# Altium schematic symbol library HW_ADHERENT_SYSCTRL_R1_L2.SCHLIB: 1987 symbols (part 19 of 38)
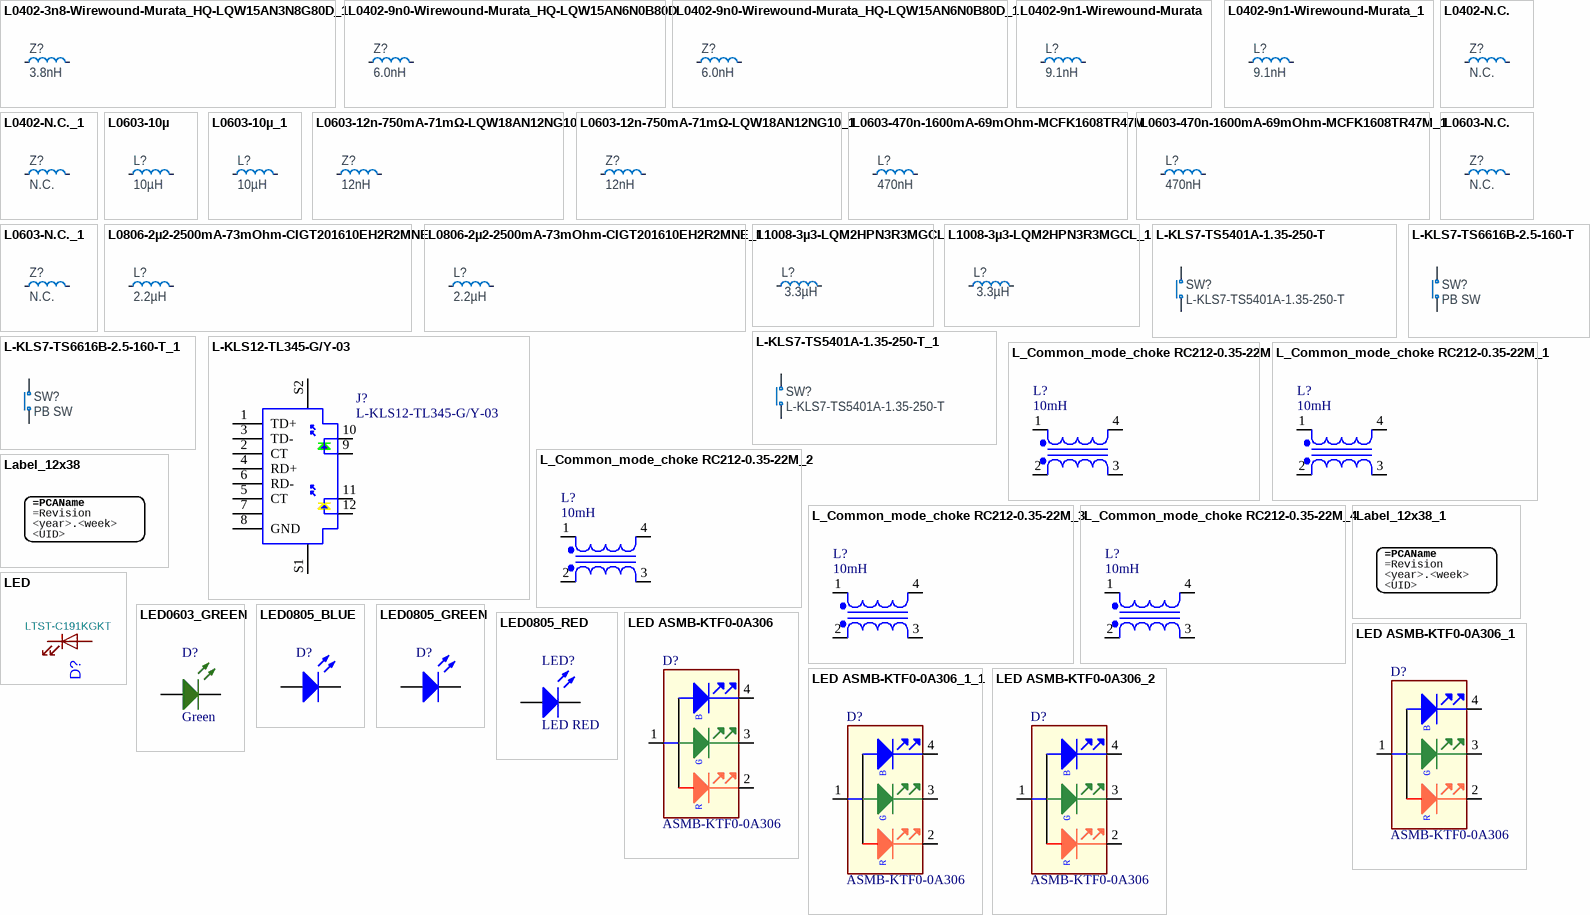
[diagram p80: symbols L0402-3n8-Wirewound-Murata_HQ-LQW15AN3N8G80D_1 to LED ASMB-KTF0-0A306_2]

## L0603-470n-1600mA-69mOhm-MCFK1608TR47M
designator L?, comment 470nH
Inductor, Irms=1.6A, Isat=1.9A, ±20%, DCR=69mΩ; Part Number: L0603-470n-1600mA-69mOhm-MCFK1608TR47M; Manufacturer: Taiyo Yuden; Manufacturer Part Number: MCFK1608TR47M; Part number NEMS: 100300402; Pad Count: 2; Component Status: Active; Note: -40°C ~ 125°C; Artikkelnr Noca: N.A.; Component Class: Inductors; Author: getr; Footprint Doc: 0603; Value: 470nH; PartId: 100300402; ComponentLink1URL: https://ds.yuden.co.jp/TYCOMPAS/ut/detail?pn=MCFK1608TR47M%20&u=M; ComponentLink1Description: Datasheet; ComponentLink2URL: https://www.digikey.com/en/products/detail/taiyo-yuden/MCFK1608TR47M/7100391?s=N4IgTCBcDaILIGEBiBpAjANgAwA4AqASgCwDscIAugL5A; ComponentLink2Description: Supplier link; HelpURL: https://ds.yuden.co.jp/TYCOMPAS/ut/detail?pn=MCFK1608TR47M&u=M; LatestRevisionDate: 2022-09-07; Published: 2021-04-06; Supplier 1: Digi-Key; Supplier Part Number 1: 587-5625-1-ND; Supplier 2: N.A.; Supplier Part Number 2: N.A.; Part number IPS: N.A.; Part number Norautron: N.A.
footprint INDC1608X06L
pins: 1, 2

## L0603-470n-1600mA-69mOhm-MCFK1608TR47M_1
designator L?, comment 470nH
Inductor, Irms=1.6A, Isat=1.9A, ±20%, DCR=69mΩ; Part Number: L0603-470n-1600mA-69mOhm-MCFK1608TR47M; Manufacturer: Taiyo Yuden; Manufacturer Part Number: MCFK1608TR47M; Part number NEMS: 100300402; Pad Count: 2; Component Status: Active; Note: -40°C ~ 125°C; Artikkelnr Noca: N.A.; Component Class: Inductors; Author: getr; Footprint Doc: 0603; Value: 470nH; PartId: 100300402; ComponentLink1URL: https://ds.yuden.co.jp/TYCOMPAS/ut/detail?pn=MCFK1608TR47M%20&u=M; ComponentLink1Description: Datasheet; ComponentLink2URL: https://www.digikey.com/en/products/detail/taiyo-yuden/MCFK1608TR47M/7100391?s=N4IgTCBcDaILIGEBiBpAjANgAwA4AqASgCwDscIAugL5A; ComponentLink2Description: Supplier link; HelpURL: https://ds.yuden.co.jp/TYCOMPAS/ut/detail?pn=MCFK1608TR47M&u=M; LatestRevisionDate: 2022-09-07; Published: 2021-04-06; Supplier 1: Digi-Key; Supplier Part Number 1: 587-5625-1-ND; Supplier 2: N.A.; Supplier Part Number 2: N.A.; Part number IPS: N.A.; Part number Norautron: N.A.
footprint INDC1608X06L
pins: 1, 2

## L0603-N.C.
designator Z?, comment N.C.
Not mounted; Part Number: L0603-N.C.; Manufacturer: N.A.; Part number NEMS: 100300069; Pad Count: 2; Assembly: Not mounted; Component Status: Active; PartId: 100300069; Component Class: Inductors; Author: rsk; Manufacturer Part Number: N.A.; ComponentLink1URL: N.A.; ComponentLink1Description: Datasheet; ComponentLink2URL: N.A.; ComponentLink2Description: Supplier link; HelpURL: N.A.; Footprint Doc: 0603; LatestRevisionDate: 2016-11-24; Published: 2016-11-24; Value: N.C.; Note: N.A.; Supplier 1: N.A.; Supplier Part Number 1: N.A.; Supplier 2: N.A.; Supplier Part Number 2: N.A.; Artikkelnr Noca: N.A.; Part number IPS: N.A.; Part number Norautron: N.A.
footprint INDC1608X06L_NC
footprint C1608X06L-C1005X04M (Chip Capacitor, 2-Leads, Body 1.6x0.8mm, IPC High Density)
pins: 1, 2

## L0603-N.C._1
designator Z?, comment N.C.
Not mounted; Part Number: L0603-N.C.; Manufacturer: N.A.; Part number NEMS: 100300069; Pad Count: 2; Assembly: Not mounted; Component Status: Active; PartId: 100300069; Component Class: Inductors; Author: rsk; Manufacturer Part Number: N.A.; ComponentLink1URL: N.A.; ComponentLink1Description: Datasheet; ComponentLink2URL: N.A.; ComponentLink2Description: Supplier link; HelpURL: N.A.; Footprint Doc: 0603; LatestRevisionDate: 2016-11-24; Published: 2016-11-24; Value: N.C.; Note: N.A.; Supplier 1: N.A.; Supplier Part Number 1: N.A.; Supplier 2: N.A.; Supplier Part Number 2: N.A.; Artikkelnr Noca: N.A.; Part number IPS: N.A.; Part number Norautron: N.A.
footprint INDC1608X06L_NC
footprint C1608X06L-C1005X04M (Chip Capacitor, 2-Leads, Body 1.6x0.8mm, IPC High Density)
pins: 1, 2

## L0806-2µ2-2500mA-73mOhm-CIGT201610EH2R2MNE
designator L?, comment 2.2µH
Inductor, Irms=2.5A, Isat=2.9A, ±20%, DCR=73mΩ; Part Number: L0806-2µ2-2500mA-73mOhm-CIGT201610EH2R2MNE; Manufacturer: Samsung Electro-Mechanics America; Manufacturer Part Number: CIGT201610EH2R2MNE; Part number Norautron: 26521789; Part number NEMS: 100300400; Pad Count: 2; Component Status: Active; Note: Unshielded Thin Film Inductor; Artikkelnr Noca: N.A.; Component Class: Inductors; Author: rsk; Footprint Doc: 0806; Value: 2.2µH; PartId: 100300400; ComponentLink1URL: https://media.digikey.com/pdf/Data%20Sheets/Samsung%20PDFs/CIGT201610EH2R2MNE_Spec.pdf; ComponentLink1Description: Datasheet; ComponentLink2URL: https://www.digikey.com/en/products/detail/samsung-electro-mechanics/CIGT201610EH2R2MNE/7041223?s=N4IgTCBcDaIMIEkDiAVMAGAjANk%2BgogBJgBKYAsgHL4gC6AvkA; ComponentLink2Description: Supplier link; HelpURL: http://product.samsungsem.com/pi/CIGT201610EH2R2MN.do; LatestRevisionDate: 2022-09-07; Published: 2021-02-03; Supplier 1: Digi-Key; Supplier Part Number 1: 1276-6901-1-ND; Supplier 2: Mouser; Supplier Part Number 2: 187-CIGT201610EH2R2M; Part number IPS: N.A.
footprint INDC2016X10N
pins: 1, 2

## L0806-2µ2-2500mA-73mOhm-CIGT201610EH2R2MNE_1
designator L?, comment 2.2µH
Inductor, Irms=2.5A, Isat=2.9A, ±20%, DCR=73mΩ; Part Number: L0806-2µ2-2500mA-73mOhm-CIGT201610EH2R2MNE; Manufacturer: Samsung Electro-Mechanics America; Manufacturer Part Number: CIGT201610EH2R2MNE; Part number Norautron: 26521789; Part number NEMS: 100300400; Pad Count: 2; Component Status: Active; Note: Unshielded Thin Film Inductor; Artikkelnr Noca: N.A.; Component Class: Inductors; Author: rsk; Footprint Doc: 0806; Value: 2.2µH; PartId: 100300400; ComponentLink1URL: https://media.digikey.com/pdf/Data%20Sheets/Samsung%20PDFs/CIGT201610EH2R2MNE_Spec.pdf; ComponentLink1Description: Datasheet; ComponentLink2URL: https://www.digikey.com/en/products/detail/samsung-electro-mechanics/CIGT201610EH2R2MNE/7041223?s=N4IgTCBcDaIMIEkDiAVMAGAjANk%2BgogBJgBKYAsgHL4gC6AvkA; ComponentLink2Description: Supplier link; HelpURL: http://product.samsungsem.com/pi/CIGT201610EH2R2MN.do; LatestRevisionDate: 2022-09-07; Published: 2021-02-03; Supplier 1: Digi-Key; Supplier Part Number 1: 1276-6901-1-ND; Supplier 2: Mouser; Supplier Part Number 2: 187-CIGT201610EH2R2M; Part number IPS: N.A.
footprint INDC2016X10N
pins: 1, 2

## L1008-3µ3-LQM2HPN3R3MGCL
designator L?, comment 3.3µH
Inductor, 1A, ±20%, 200mOhm; Part Number: L1008-3µ3-LQM2HPN3R3MGCL; Manufacturer: Murata; Manufacturer Part Number: LQM2HPN3R3MGCL; Part number NEMS: 100300406; Pad Count: 2; Note: -55°C ~ 125°C; Artikkelnr Noca: N.A.; Component Status: Active; Component Class: Inductors; Author: prbu; ComponentLink1URL: https://www.murata.com/en-sg/products/productdetail?partno=LQM2HPN3R3MGC%23; ComponentLink1Description: Datasheet; ComponentLink2URL: https://www.digikey.com/en/products/detail/murata-electronics/LQM2HPN3R3MGCL/4359129?s=N4IgTCBcDaIDIEUCyYASAFAcgZgEraQHEBhOEAXQF8g; ComponentLink2Description: Supplier link; HelpURL: https://www.murata.com/en-sg/products/productdetail?partno=LQM2HPN3R3MGC%23; Footprint Doc: 1008; LatestRevisionDate: 2022-01-20; Published: 2022-01-20; Value: 3.3µH; Supplier 1: Digi-Key; Supplier Part Number 1: 490-12070-1-ND; Supplier 2: N.A.; Supplier Part Number 2: N.A.; Part number IPS: N.A.; Part number Norautron: N.A.; PartId: 100300406
footprint INDC2520X10N
pins: 1, 2

## L1008-3µ3-LQM2HPN3R3MGCL_1
designator L?, comment 3.3µH
Inductor, 1A, ±20%, 200mOhm; Part Number: L1008-3µ3-LQM2HPN3R3MGCL; Manufacturer: Murata; Manufacturer Part Number: LQM2HPN3R3MGCL; Part number NEMS: 100300406; Pad Count: 2; Note: -55°C ~ 125°C; Artikkelnr Noca: N.A.; Component Status: Active; Component Class: Inductors; Author: prbu; ComponentLink1URL: https://www.murata.com/en-sg/products/productdetail?partno=LQM2HPN3R3MGC%23; ComponentLink1Description: Datasheet; ComponentLink2URL: https://www.digikey.com/en/products/detail/murata-electronics/LQM2HPN3R3MGCL/4359129?s=N4IgTCBcDaIDIEUCyYASAFAcgZgEraQHEBhOEAXQF8g; ComponentLink2Description: Supplier link; HelpURL: https://www.murata.com/en-sg/products/productdetail?partno=LQM2HPN3R3MGC%23; Footprint Doc: 1008; LatestRevisionDate: 2022-01-20; Published: 2022-01-20; Value: 3.3µH; Supplier 1: Digi-Key; Supplier Part Number 1: 490-12070-1-ND; Supplier 2: N.A.; Supplier Part Number 2: N.A.; Part number IPS: N.A.; Part number Norautron: N.A.; PartId: 100300406
footprint INDC2520X10N
pins: 1, 2

## L-KLS7-TS5401A-1.35-250-T
designator SW?
Microminiature SMT Switch, Side Actuated; Manufacturer: Cabcon; Part number NEMS: 101500149; Pad Count: 4; Note: Tactile Switch, SPST, SMD, 220gf; Artikkelnr Noca: N.A.; Component Status: Active; Part Number: L-KLS7-TS5401A-1.35-250-T; Component Class: Switches; Author: getr; Manufacturer Part Number: L-KLS7-TS5401A-1.35-250-T; ComponentLink1URL: N.A.; ComponentLink1Description: Datasheet; ComponentLink2URL: N.A.; ComponentLink2Description: Supplier link; HelpURL: N.A.; Footprint Doc: L-KLS7-TS5401A-1.35-250-T; LatestRevisionDate: 2024-08-08; Published: 2024-08-08; Value: L-KLS7-TS5401A-1.35-250-T; Supplier 1: Cabcon; Supplier Part Number 1: L-KLS7-TS5401A-1.35-250-T; Supplier 2: N.A.; Supplier Part Number 2: N.A.; Part number IPS: N.A.; Part number Norautron: N.A.; PartId: 101500149
footprint L-KLS7-TS5401A-1.35-250-T
pins: 1 N.O, 2 COM

## L-KLS7-TS5401A-1.35-250-T_1
designator SW?, comment L-KLS7-TS5401A-1.35-250-T
Microminiature SMT Switch, Side Actuated; Manufacturer: Cabcon; Part number NEMS: 101500149; Pad Count: 4; Note: Tactile Switch, SPST, SMD, 220gf; Artikkelnr Noca: N.A.; Component Status: Active; Part Number: L-KLS7-TS5401A-1.35-250-T; Component Class: Switches; Author: getr; Manufacturer Part Number: L-KLS7-TS5401A-1.35-250-T; ComponentLink1URL: N.A.; ComponentLink1Description: Datasheet; ComponentLink2URL: N.A.; ComponentLink2Description: Supplier link; HelpURL: N.A.; Footprint Doc: L-KLS7-TS5401A-1.35-250-T; LatestRevisionDate: 2024-08-08; Published: 2024-08-08; Value: L-KLS7-TS5401A-1.35-250-T; Supplier 1: Cabcon; Supplier Part Number 1: L-KLS7-TS5401A-1.35-250-T; Supplier 2: N.A.; Supplier Part Number 2: N.A.; Part number IPS: N.A.; Part number Norautron: N.A.; PartId: 101500149
footprint L-KLS7-TS5401A-1.35-250-T
pins: 1 N.O, 2 COM

## L-KLS7-TS6616B-2.5-160-T
designator SW?, comment PB SW
Tactile Switch, SPNO, SMD, 160gf, 6.2x6.4x2.5mm; Part Number: L-KLS7-TS6616B-2.5-160-T; Manufacturer: KLS; Part number NEMS: 101500133, 101500001; Note: N.A.; Pad Count: 4; Component Status: Active; Manufacturer Part Number: L-KLS7-TS6616B-2.5-160-T; Footprint Doc: L-KLS7-TS6616B-2.5-160-T; LatestRevisionDate: 2021-07-02; Published: 2021-07-02; Value: PB SW; Artikkelnr Noca: N.A.; Part number IPS: N.A.; ComponentLink1URL: N.A.; ComponentLink1Description: Datasheet; ComponentLink2URL: N.A.; ComponentLink2Description: Supplier link; HelpURL: \\hizz\pro\app9717\Datasheet\switches\KLS\L-KLS7-TS6616B-2.5-160-T.pdf; Supplier 1: Cabcon; Supplier Part Number 1: L-KLS7-TS6616B-2.5-160-T; Supplier 2: N.A.; Supplier Part Number 2: N.A.; Author: masi; Component Class: Switches; PartId: 101500133; Part number Norautron: N.A.
footprint L-KLS7-TS6616B-2.5-160-T
pins: 1 N.O, 2 COM

## L-KLS7-TS6616B-2.5-160-T_1
designator SW?, comment PB SW
Tactile Switch, SPNO, SMD, 160gf, 6.2x6.4x2.5mm; Part Number: L-KLS7-TS6616B-2.5-160-T; Manufacturer: KLS; Part number NEMS: 101500133, 101500001; Note: N.A.; Pad Count: 4; Component Status: Active; Manufacturer Part Number: L-KLS7-TS6616B-2.5-160-T; Footprint Doc: L-KLS7-TS6616B-2.5-160-T; LatestRevisionDate: 2021-07-02; Published: 2021-07-02; Value: PB SW; Artikkelnr Noca: N.A.; Part number IPS: N.A.; ComponentLink1URL: N.A.; ComponentLink1Description: Datasheet; ComponentLink2URL: N.A.; ComponentLink2Description: Supplier link; HelpURL: \\hizz\pro\app9717\Datasheet\switches\KLS\L-KLS7-TS6616B-2.5-160-T.pdf; Supplier 1: Cabcon; Supplier Part Number 1: L-KLS7-TS6616B-2.5-160-T; Supplier 2: N.A.; Supplier Part Number 2: N.A.; Author: masi; Component Class: Switches; PartId: 101500133; Part number Norautron: N.A.
footprint L-KLS7-TS6616B-2.5-160-T
pins: 1 N.O, 2 COM

## L-KLS12-TL345-G/Y-03
designator J?
Manufacturer: KLS; Manufacturer Part Number: L-KLS12-TL345-G/Y-03; Supplier 1: OZDISAN
footprint L-KLS12-TL345-G/Y-03 (Connector, 12-Leads, Body 17.27x15.75mm, Pitch 1.016mm)
footprint L-KLS12-TL345-G/Y-03_1 (Connector, 12-Leads, Body 17.27x15.75mm, Pitch 1.016mm)
pins: 1 TD+, 2 CT, 3 TD-, 4 RD+, 5 CT, 6 RD-, 7, 8 GND, 9, 10, 11, 12, S1, S2

## L_Common_mode_choke RC212-0.35-22M
designator L?, comment 10mH
CMC 10MH 2A 2LN TH; Manufacturer: Würth Elektronik; Manufacturer Part Number: 744823210; Value: 10mH; Supplier Part Number: 732-1447-ND
footprint RADIAL, 23X13X28MM (PN: 744823210)
pins: 1, 2, 3, 4

## L_Common_mode_choke RC212-0.35-22M_1
designator L?, comment 10mH
CMC 10MH 2A 2LN TH; Manufacturer: Würth Elektronik; Manufacturer Part Number: 744823210; Value: 10mH; Supplier Part Number: 732-1447-ND
footprint RADIAL, 23X13X28MM (PN: 744823210)
pins: 1, 2, 3, 4

## L_Common_mode_choke RC212-0.35-22M_2
designator L?, comment 10mH
CMC 10MH 2A 2LN TH; Manufacturer: Würth Elektronik; Manufacturer Part Number: 744823210; Value: 10mH; Supplier Part Number: 732-1447-ND
footprint RADIAL, 23X13X28MM (PN: 744823210)
pins: 1, 2, 3, 4

## L_Common_mode_choke RC212-0.35-22M_3
designator L?, comment 10mH
CMC 10MH 2A 2LN TH; Manufacturer: Würth Elektronik; Manufacturer Part Number: 744823210; Value: 10mH; Supplier Part Number: 732-1447-ND
footprint RADIAL, 23X13X28MM (PN: 744823210)
pins: 1, 2, 3, 4

## L_Common_mode_choke RC212-0.35-22M_4
designator L?, comment 10mH
CMC 10MH 2A 2LN TH; Manufacturer: Würth Elektronik; Manufacturer Part Number: 744823210; Value: 10mH; Supplier Part Number: 732-1447-ND
footprint RADIAL, 23X13X28MM (PN: 744823210)
pins: 1, 2, 3, 4

## Label_12x38
designator LABEL?, comment 12x38mm  (value not drawn)
PCA version label, stick-on, 12x38mm; Part Number: Label_12x38; Manufacturer: Ellco Etikett; Manufacturer Part Number: 83019; Part number NEMS: 101200031; Component Status: Active; Pad Count: 0; Note: N.A.; Component Class: Mechanicals; Author: getr; ComponentLink1URL: N.A.; ComponentLink1Description: Datasheet; ComponentLink2URL: N.A.; ComponentLink2Description: Supplier link; HelpURL: N.A.; LatestRevisionDate: 2023-08-02; Published: 2023-08-02; Footprint Doc: Label; Value: 12x38mm; Supplier 1: N.A.; Supplier Part Number 1: N.A.; Supplier 2: N.A.; Supplier Part Number 2: N.A.; Artikkelnr Noca: N.A.; Part number IPS: N.A.; Part number Norautron: N.A.; PartId: 101200031
footprint LabelSilk_12x38
text: <year>.<week>; <UID>

## Label_12x38_1
designator LABEL?, comment 12x38mm  (value not drawn)
PCA version label, stick-on, 12x38mm; Part Number: Label_12x38; Manufacturer: Ellco Etikett; Manufacturer Part Number: 83019; Part number NEMS: 101200031; Component Status: Active; Pad Count: 0; Note: N.A.; Component Class: Mechanicals; Author: getr; ComponentLink1URL: N.A.; ComponentLink1Description: Datasheet; ComponentLink2URL: N.A.; ComponentLink2Description: Supplier link; HelpURL: N.A.; LatestRevisionDate: 2023-08-02; Published: 2023-08-02; Footprint Doc: Label; Value: 12x38mm; Supplier 1: N.A.; Supplier Part Number 1: N.A.; Supplier 2: N.A.; Supplier Part Number 2: N.A.; Artikkelnr Noca: N.A.; Part number IPS: N.A.; Part number Norautron: N.A.; PartId: 101200031
footprint LabelSilk_12x38
text: <year>.<week>; <UID>

## LED
designator D?, comment LTST-C191KGKT
LED, Bright Green, 0603; Manufacturer: Lite-On Inc.; Footprint: LED_SMD:LED_0603_1608Metric; Manufacturer Part Number: LTST-C191KGKT; Supplier Part Number: 160-1446-1-ND; Value: LTST-C191KGKT
footprint LED0603 (Footprint not found)
pins: 1 A, 2 K

## LED0603_GREEN
designator D?, comment Green
LED GREEN CLEAR 0603 SMD; Manufacturer Part Number: 150060GS75000; Order Code: DIGI : 732-4971-1-ND; Value: Green
footprint LED0603
pins: 1 A, 2 K

## LED0805_BLUE
designator D?, comment LED BLUE  (value not drawn)
Blue 470nm LED Indication - Discrete 3V 0805 (2012 Metric); Manufacturer Part Number: IN-S85AT5B; Manufacturer: Inolux; Color: Red; ComponentLink1Description: Manufacturer URL; ComponentLink2Description: Datasheet; ComponentLink1URL: http://www.we-online.com; PackageReference: 0805_A; ComponentLink2URL: http://katalog.we-online.com/led/datasheet/150080RS75000.pdf
footprint LED0805 (Chip LED, 2-Leads, Body 2.0x1.3mm, IPC Medium Density)
pins: 1 K, 2 A

## LED0805_GREEN
designator D?, comment LED GREEN  (value not drawn)
Green 570nm LED Indication - Discrete 2.1V 0805 (2012 Metric); Manufacturer Part Number: QTLP630C4TR; Manufacturer: Everlight Electronics Co Ltd; Color: Red; ComponentLink1Description: Manufacturer URL; ComponentLink2Description: Datasheet; ComponentLink1URL: http://www.we-online.com; PackageReference: 0805_A; ComponentLink2URL: http://katalog.we-online.com/led/datasheet/150080RS75000.pdf
footprint LED0805 (Chip LED, 2-Leads, Body 2.0x1.3mm, IPC Medium Density)
pins: 1 K, 2 A

## LED0805_RED
designator LED?, comment LED RED
SMD mono-color Chip LED, WL-SMCW, Red; Manufacturer Part Number: 150080RS75000; Manufacturer: Wuerth Elektronik; ComponentLink1Description: Manufacturer URL; ComponentLink2Description: Datasheet; Color: Red; ComponentLink1URL: http://www.we-online.com; PackageReference: 0805_A; ComponentLink2URL: http://katalog.we-online.com/led/datasheet/150080RS75000.pdf
footprint LED0805 (Chip LED, 2-Leads, Body 2.0x1.3mm, IPC Medium Density)
pins: 1 K, 2 A

## LED ASMB-KTF0-0A306
designator D?, comment ASMB-KTF0-0A306
LED RGB 4PLCC SMD; Manufacturer: Broadcom Limited; Value: ASMB-KTF0-0A306; Manufacturer Part Number: ASMB-KTF0-0A306; Supplier Part Number: 516-3906-1-ND
footprint SMD 2.2x2.0mm (ASMB-KTF0-0A306)
pins: 1 Anode, 2 CATHODE1, 3 CATHODE2, 4 CATHODE3
text: B; G; R

## LED ASMB-KTF0-0A306_1
designator D?, comment ASMB-KTF0-0A306
LED RGB 4PLCC SMD; Manufacturer: Broadcom Limited; Manufacturer Part Number: ASMB-KTF0-0A306; Supplier Part Number: 516-3906-1-ND; Value: ASMB-KTF0-0A306
footprint SMD 2.2x2.0mm (ASMB-KTF0-0A306)
pins: 1 Anode, 2 CATHODE1, 3 CATHODE2, 4 CATHODE3
text: B; G; R

## LED ASMB-KTF0-0A306_1_1
designator D?, comment ASMB-KTF0-0A306
LED RGB 4PLCC SMD; Manufacturer: Broadcom Limited; Manufacturer Part Number: ASMB-KTF0-0A306; Supplier Part Number: 516-3906-1-ND; Value: ASMB-KTF0-0A306
footprint SMD 2.2x2.0mm (ASMB-KTF0-0A306)
pins: 1 Anode, 2 CATHODE1, 3 CATHODE2, 4 CATHODE3
text: B; G; R

## LED ASMB-KTF0-0A306_2
designator D?, comment ASMB-KTF0-0A306
LED RGB 4PLCC SMD; Manufacturer: Broadcom Limited; Value: ASMB-KTF0-0A306; Manufacturer Part Number: ASMB-KTF0-0A306; Supplier Part Number: 516-3906-1-ND
footprint SMD 2.2x2.0mm (ASMB-KTF0-0A306)
pins: 1 Anode, 2 CATHODE1, 3 CATHODE2, 4 CATHODE3
text: B; G; R

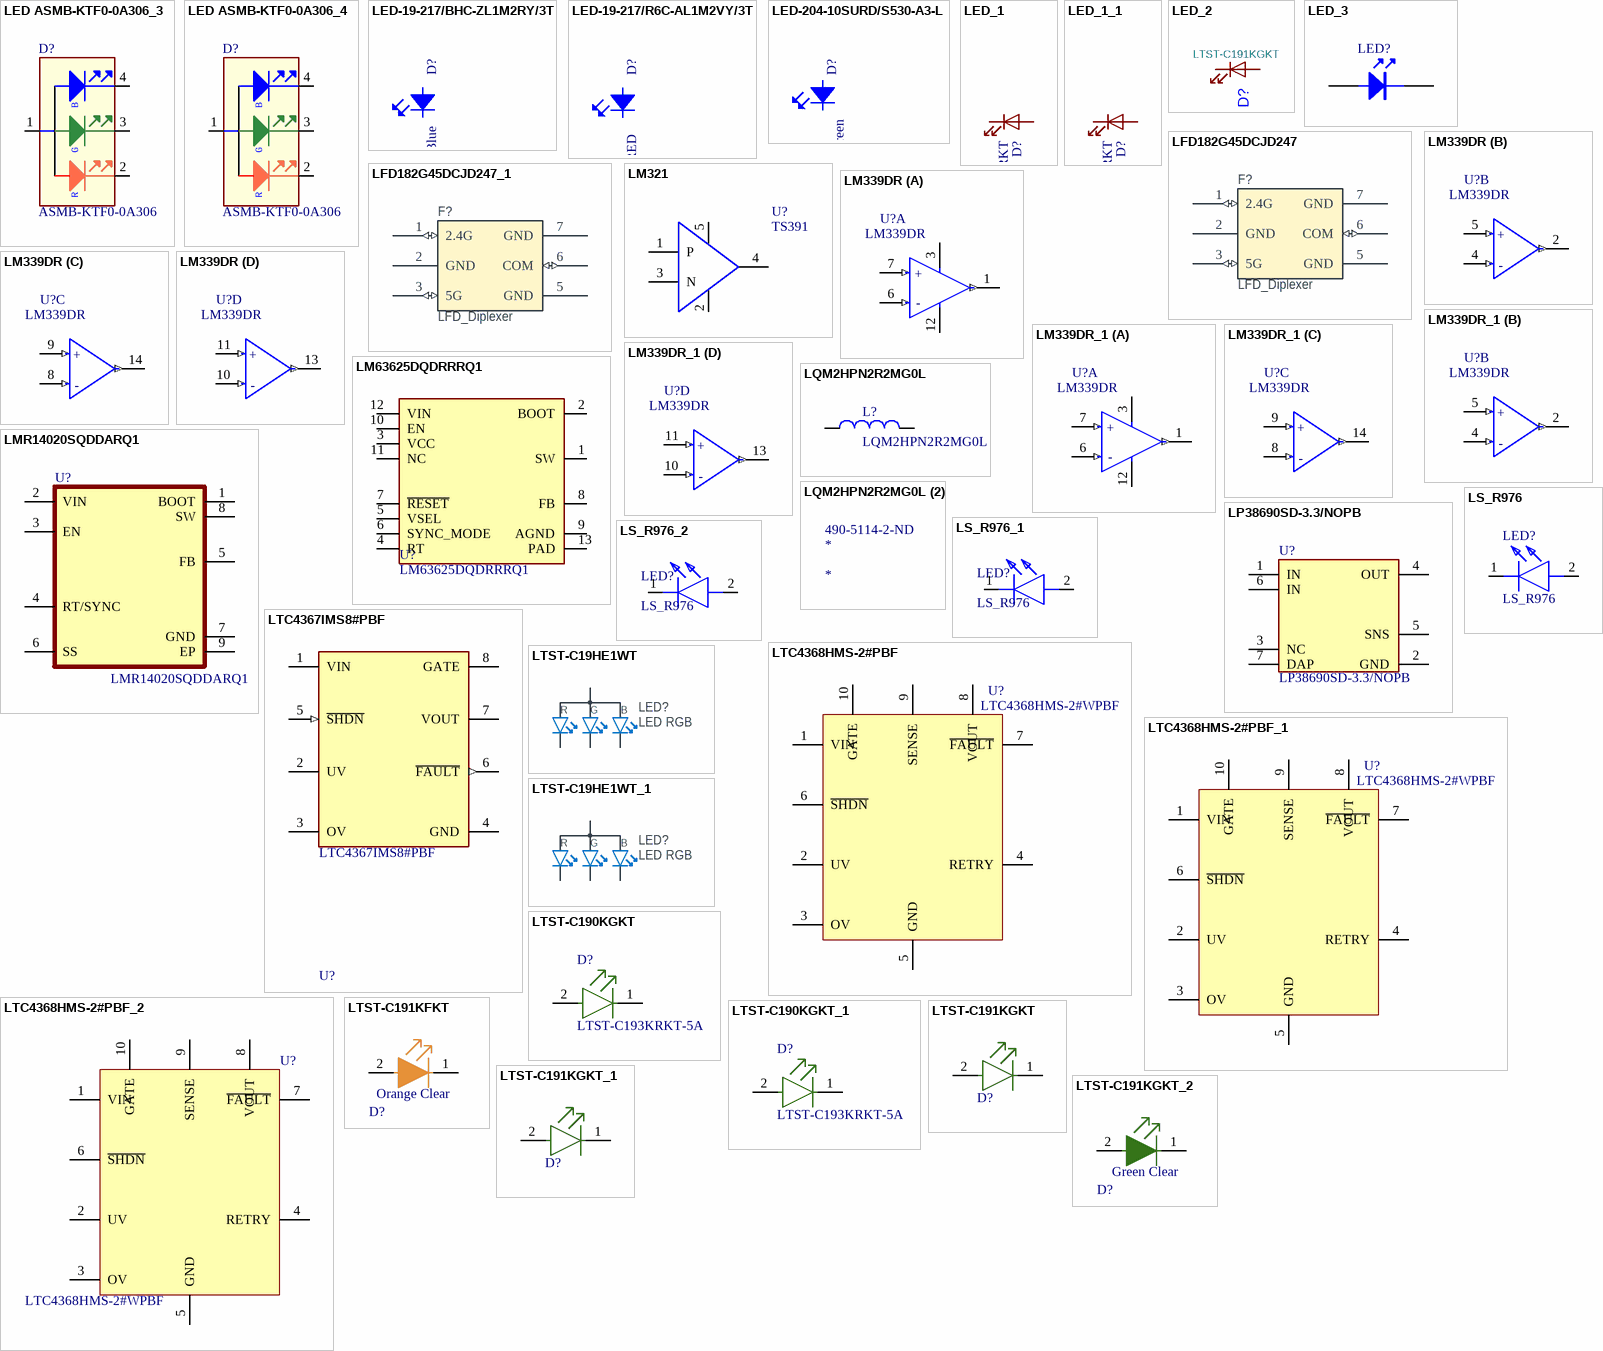
[diagram p33: symbols LED ASMB-KTF0-0A306_3 to LTST-C191KGKT_2]

## LED ASMB-KTF0-0A306_3
designator D?, comment ASMB-KTF0-0A306
LED RGB 4PLCC SMD; Manufacturer: Broadcom Limited; Manufacturer Part Number: ASMB-KTF0-0A306; Supplier Part Number: 516-3906-1-ND; Value: ASMB-KTF0-0A306
footprint SMD 2.2x2.0mm (ASMB-KTF0-0A306)
pins: 1 Anode, 2 CATHODE1, 3 CATHODE2, 4 CATHODE3
text: B; G; R

## LED ASMB-KTF0-0A306_4
designator D?, comment ASMB-KTF0-0A306
LED RGB 4PLCC SMD; Manufacturer: Broadcom Limited; Manufacturer Part Number: ASMB-KTF0-0A306; Supplier Part Number: 516-3906-1-ND; Value: ASMB-KTF0-0A306
footprint SMD 2.2x2.0mm (ASMB-KTF0-0A306)
pins: 1 Anode, 2 CATHODE1, 3 CATHODE2, 4 CATHODE3
text: B; G; R

## LED-19-217/BHC-ZL1M2RY/3T
designator D?, comment Blue
LED,Brilliant Blue,Water Clear,10mA,SMD,0603,Everlight; Manufacturer P/N: 19-217/BHC-ZL1M2RY/3T; PCB Footprint: LED0603; Myir P/N: 20704.00011; Datasheet: 19-217-BHC-ZL1M2RY-3T.pdf; Reserve Value: Blue; Manufacturer: Everlight; Part Type: LED
footprint LED0603
pins: 1 A, 2 K

## LED-19-217/R6C-AL1M2VY/3T
designator D?, comment RED
LED,Brilliant Red,Water Clear,25mA,SMD,0603,Everlight; Manufacturer P/N: 19-217/R6C-AL1M2VY/3T; PCB Footprint: LED0603; Myir P/N: 20704.00010; Datasheet: 19-217-R6C-AL1M2VY-3T.pdf; Reserve Value: Red; Manufacturer: Everlight; Part Type: LED
footprint LED0603
pins: 1 A, 2 K

## LED-204-10SURD/S530-A3-L
designator D?, comment Green
LED,Brilliant Green,Water Clear,25mA,SMD,0603,Everlight,Everlight; Manufacturer P/N: 19-217/G7C-AN1P2-3T; PCB Footprint: LED0603; Myir P/N: 20704.80031; Part Type: LED; Manufacturer: Everlight; Reserve Value: Green; Datasheet: 19-217-G7C-AN1P2-3T.pdf
footprint LED0603
pins: 1 A, 2 K

## LED_1
designator D?, comment LTST-C191KRKT
LED RED CLEAR SMD; Manufacturer: Lite-On Inc.; Value: LTST-C191KRKT; Footprint: LED_SMD:LED_0603_1608Metric; Manufacturer Part Number: LTST-C191KRKT; Supplier Part Number: 160-1447-1-ND
footprint LED0603 (Footprint not found)
pins: 1 A, 2 K

## LED_1_1
designator D?, comment LTST-C191KRKT
LED RED CLEAR SMD; Manufacturer: Lite-On Inc.; Value: LTST-C191KRKT; Footprint: LED_SMD:LED_0603_1608Metric; Manufacturer Part Number: LTST-C191KRKT; Supplier Part Number: 160-1447-1-ND
footprint LED0603 (Footprint not found)
pins: 1 A, 2 K

## LED_2
designator D?, comment LTST-C191KGKT
LED, Bright Green, 0603; Manufacturer: Lite-On Inc.; Footprint: LED_SMD:LED_0603_1608Metric; Manufacturer Part Number: LTST-C191KGKT; Supplier Part Number: 160-1446-1-ND; Value: LTST-C191KGKT
footprint LED0603 (Footprint not found)
pins: 1 A, 2 K

## LED_3
designator LED?
footprint LUMEXLED
pins: A 1, K 2

## LFD182G45DCJD247
designator F?, comment LFD_Diplexer
Signal Conditioning 2.4GHz and 5GHz Diplexer; Part Number: LFD182G45DCJD247; Manufacturer: Murata; Part number NEMS: 100800026; Pad Count: 6; Value: LFD182G45DCJD247; Note: N.A.; Component Status: Active; Component Class: Filters; Author: hany; Manufacturer Part Number: LFD182G45DCJD247; ComponentLink1URL: https://no.mouser.com/datasheet/2/281/1/LFD182G45DCJD247-2399435.pdf; ComponentLink1Description: Datasheet; ComponentLink2URL: N.A.; ComponentLink2Description: Supplier link; HelpURL: N.A.; Footprint Doc: CAF; LatestRevisionDate: 2021-10-06; Published: 2021-10-06; Supplier 1: Mouser; Supplier Part Number 1: 81-LFD182G45DCJD247; Supplier 2: N.A.; Supplier Part Number 2: N.A.; Artikkelnr Noca: N.A.; Part number IPS: N.A.; Part number Norautron: N.A.; PartId: 100800026
footprint CAF-50P160X80-6N
pins: 1 2.4G (io), 2 GND (power), 3 5G (io), 5 GND (power), 6 COM (io), 7 GND (power)

## LFD182G45DCJD247_1
designator F?, comment LFD_Diplexer
Signal Conditioning 2.4GHz and 5GHz Diplexer; Part Number: LFD182G45DCJD247; Manufacturer: Murata; Part number NEMS: 100800026; Pad Count: 6; Value: LFD182G45DCJD247; Note: N.A.; Component Status: Active; Component Class: Filters; Author: hany; Manufacturer Part Number: LFD182G45DCJD247; ComponentLink1URL: https://no.mouser.com/datasheet/2/281/1/LFD182G45DCJD247-2399435.pdf; ComponentLink1Description: Datasheet; ComponentLink2URL: N.A.; ComponentLink2Description: Supplier link; HelpURL: N.A.; Footprint Doc: CAF; LatestRevisionDate: 2021-10-06; Published: 2021-10-06; Supplier 1: Mouser; Supplier Part Number 1: 81-LFD182G45DCJD247; Supplier 2: N.A.; Supplier Part Number 2: N.A.; Artikkelnr Noca: N.A.; Part number IPS: N.A.; Part number Norautron: N.A.; PartId: 100800026
footprint CAF-50P160X80-6N
pins: 1 2.4G (io), 2 GND (power), 3 5G (io), 5 GND (power), 6 COM (io), 7 GND (power)

## LM321
designator U?, comment TS391
footprint SOT-25
pins: 1 P, 2 GND, 3 N, 4 OUT, 5 VDD

## LM339DR
designator U?, comment Manufacturer Part Number: LM339DR  (hidden comment: IC COMPARATOR 4 DIFF 14SOIC)
Comparator Differential Open-Collector, Rail-to-Rail 14-SOIC
footprint Texas_Instruments_D0014A_IPC_A
part A pins: 1 1OUT (out), 3 VCC (power), 6 1IN- (in), 7 1IN+ (in), 12 GND (power)
part B pins: 2 2OUT (out), 4 2IN- (in), 5 2IN+ (in)
part C pins: 8 3IN- (in), 9 3IN+ (in), 14 OUT3 (out)
part D pins: 10 4IN- (in), 11 4IN+ (in), 13 OUT4 (out)
part A text: +; -
part B text: +; -
part C text: +; -
part D text: +; -

## LM339DR_1
designator U?, comment Manufacturer Part Number: LM339DR  (hidden comment: IC COMPARATOR 4 DIFF 14SOIC)
Comparator Differential Open-Collector, Rail-to-Rail 14-SOIC
footprint Texas_Instruments_D0014A_IPC_A
part A pins: 1 1OUT (out), 3 VCC (power), 6 1IN- (in), 7 1IN+ (in), 12 GND (power)
part B pins: 2 2OUT (out), 4 2IN- (in), 5 2IN+ (in)
part C pins: 8 3IN- (in), 9 3IN+ (in), 14 OUT3 (out)
part D pins: 10 4IN- (in), 11 4IN+ (in), 13 OUT4 (out)
part A text: +; -
part B text: +; -
part C text: +; -
part D text: +; -

## LM63625DQDRRRQ1
designator U?, comment Manufacturer Part Number: LM63625DQDRRRQ1  (hidden comment: IC REG BUCK ADJ 2.5A 12WSON)
Buck Switching Regulator IC Positive Adjustable 1V 1 Output 2.5A 12-WFDFN Exposed Pad; Manufacturer: Texas Instruments; Order Code: DIGI: LM63625DQDRRRQ1
footprint Ti_WSON-12 (WSON-12, thermal pad)
pins: 1 SW, 2 BOOT, 3 VCC, 4 RT, 5 VSEL, 6 SYNC_MODE, 7 ~{RESET}, 8 FB, 9 AGND, 10 EN, 11 NC, 12 VIN, 13 PAD

## LMR14020SQDDARQ1
designator U?
Automotive 40V, 2A SIMPLE SWITCHER, 2.2MHz Step-Down Regulator with 40uA IQ; Manufacturer_Name: Texas Instruments; Geometry.Height: 1.7mm; Manufacturer Part Number: LMR14020SQDDARQ1; Mouser Part Number: 595-LMR14020SQDDARQ1; Mouser Price/Stock: https://www.mouser.co.uk/ProductDetail/Texas-Instruments/LMR14020SQDDARQ1?qs=8%2FmU9qzJpL8PyB4AgU4Y8g%3D%3D; Arrow Part Number: LMR14020SQDDARQ1; Arrow Price/Stock: https://www.arrow.com/en/products/lmr14020sqddarq1/texas-instruments; Datasheet Link: http://www.ti.com/general/docs/suppproductinfo.tsp?distId=10&gotoUrl=http%3A%2F%2Fwww.ti.com%2Flit%2Fgpn%2Flmr14020-q1
footprint SOIC127P600X170-9N
pins: 1 BOOT, 2 VIN, 3 EN, 4 RT/SYNC, 5 FB, 6 SS, 7 GND, 8 SW, 9 EP

## LP38690SD-3.3/NOPB
designator U?
1A Low Dropout CMOS Linear Regulators Stable with Ceramic Output Capacitors, 6-pin LLP, Pb-Free; Manufacturer: National Semiconductor; PackageTopMarking: ZXYTT*L115B; PowerWise: Y; CompType: LDO IC; ComponentLink1Description: LP38690 Datasheet; ComponentLink2Description: LP38690 Web Page; DatasheetVersion: May-2005; PinCount: 6; ComponentLink1URL: http://www.national.com/ds/LP/LP38690.pdf; ComponentLink2URL: http://www.national.com/pf/LP/LP38690.html; RevisionNote: Component URLs added; ComponentLink3URL: http://www.national.com/packaging/folders/sde06a.html; ComponentLink3Description: SDE06A Package Page; PackageVersion: revA, Jul-2003; PackageReference: SDE06A; PackageDescription: LLP, Plastic, Dual, 3 x 3 x 0.8mm Body, 6 Lead, 0.95mm Pitch, No Pullback; RoHS: Y; Manufacturer Part Number: LP38690SD-3.3/NOPB
footprint SDE06A_quad (SON, 6-Leads, Body 3x3 mm, Pitch 0.95mm, NSC Recommended)
pins: 1 IN (power), 2 GND (power), 3 NC, 4 OUT (power), 5 SNS, 6 IN (power), 7 DAP (power)

## LQM2HPN2R2MG0L
designator L?
Inductor Power Chip Shielded Multi-Layer 2.2uH 20% 1MHz Ferrite 1.3A 100mOhm DCR 1008 T/R
footprint INDC2520X100N
pins: 1, 2

## LQM2HPN2R2MG0L (2)
designator *  Supplier Part Number 1: 490-5114-2-ND
Inductor Power Chip Shielded Multi-Layer 2.2uH 20% 1MHz Ferrite 1.3A 100mOhm DCR 1008 T/R; Manufacturer: Murata; Manufacturer Part Number: LQM2HPN2R2MG0L; Self Resonant Frequency: 40MHz; DC Resistance (DCR): 80mR; Series Resistance: 100mR; Voltage Rating: 50V; Supplier 1: Digikey; RoHS: Yes; Category: Fixed Inductors; Stock 1: 123000; Pricing 1: 3000=0.08405, 6000=0.08142, 15000=0.07879, 30000=0.07617, 75000=0.07354 (USD); Mount: Surface Mount; Case/Package: 1008; Number of Pins: 2NUMBER; Core Material: Ferrite; Case Code (Metric): 2520; Case Code (Imperial): 1008; Min Operating Temperature: -55°C; Max Operating Temperature: 125°C; Packaging: Tape and Reel; Shielding: Shielded; Tolerance: 20%; Package Quantity: 1; Current Rating: 1.3A; Inductance: 2.2uH; Max DC Current: 1.3A; Termination: SMD/SMT; Test Frequency: 1MHz; DC Current: 1.3A; Inductance Tolerance: 20%; Series: LQM2HP_G0; RMS Current (Irms): 1.3A; Voltage Rating (DC): 50V; Length: 2.5mm; Width: 0.079inch; Height: 1.2mm; Height - Seated (Max): 0.039inch; Depth: 2.2mm; Lead Pitch: 5mm; Radiation Hardening: No; Military Standard: Not; Reach SVHC Compliant: No; RoHS Compliant: Yes; Lead Free: 5697LeadFree; ComponentLink1URL: https://datasheet.ciiva.com/30490/0900766b812561d9-30490188.pdf?src-supplier=Rs; ComponentLink1Description: https://datasheet.ciiva.com/30490/0900766b812561d9-30490188.pdf?src-supplier=Rs; ComponentLink2URL: https://datasheet.ciiva.com/18089/getdatasheetpartid-153082-18089633.pdf?src-supplier=Verical; ComponentLink2Description: https://datasheet.ciiva.com/18089/getdatasheetpartid-153082-18089633.pdf?src-supplier=Verical; ComponentLink3URL: https://datasheet.ciiva.com/1042/l0075s0104lqm2hp-g0-1042920.pdf?src-supplier=Digikey; ComponentLink3Description: https://datasheet.ciiva.com/1042/l0075s0104lqm2hp-g0-1042920.pdf?src-supplier=Digikey; ComponentLink4URL: https://datasheet.ciiva.com/1042/l0075s0104lqm2hp-g0-1042919.pdf?src-supplier=Digikey; ComponentLink4Description: https://datasheet.ciiva.com/1042/l0075s0104lqm2hp-g0-1042919.pdf?src-supplier=Digikey; ComponentLink5URL: https://datasheet.ciiva.com/1042/l0075s0104lqm2hp-g0-1042921.pdf?src-supplier=Digikey; ComponentLink5Description: https://datasheet.ciiva.com/1042/l0075s0104lqm2hp-g0-1042921.pdf?src-supplier=Digikey; ComponentLink6URL: https://datasheet.ciiva.com/4959/product-4959558.pdf?src-supplier=Mouser; ComponentLink6Description: https://datasheet.ciiva.com/4959/product-4959558.pdf?src-supplier=Mouser; ComponentLink7URL: https://datasheet.ciiva.com/8510/l0075s0104lqm2hp-g0-8510494.pdf?src-supplier=Avnet; ComponentLink7Description: https://datasheet.ciiva.com/8510/l0075s0104lqm2hp-g0-8510494.pdf?src-supplier=Avnet

## LS_R976
designator LED?
Red 633nm LED Indication - Discrete 2V 0805 (2012 Metric); Manufacturer_Name: ams OSRAM; Manufacturer_Part_Number: LS R976; Datasheet Link: http://uk.rs-online.com/web/p/products/4974804; Height: 0.4mm; Mouser Part Number: 720-LSR976D5178; Mouser Price/Stock: https://www.mouser.co.uk/ProductDetail/OSRAM-Opto-Semiconductors/LS-R976?qs=OIr7YF%252B2cWVTfzKl425Fkw%3D%3D; Arrow Part Number: LS R976; Arrow Price/Stock: https://www.arrow.com/en/products/lsr976/osram-opto-semiconductors?region=europe
footprint LEDC2012X40N
pins: 1 K, 2 A

## LS_R976_1
designator LED?, comment LS_R976
Red 633nm LED Indication - Discrete 2V 0805 (2012 Metric); Manufacturer_Name: ams OSRAM; Manufacturer_Part_Number: LS R976; Datasheet Link: http://uk.rs-online.com/web/p/products/4974804; Height: 0.4mm; Mouser Part Number: 720-LSR976D5178; Mouser Price/Stock: https://www.mouser.co.uk/ProductDetail/OSRAM-Opto-Semiconductors/LS-R976?qs=OIr7YF%252B2cWVTfzKl425Fkw%3D%3D; Arrow Part Number: LS R976; Arrow Price/Stock: https://www.arrow.com/en/products/lsr976/osram-opto-semiconductors?region=europe
footprint LEDC2012X40N
pins: 1 K, 2 A

## LS_R976_2
designator LED?, comment LS_R976
Red 633nm LED Indication - Discrete 2V 0805 (2012 Metric); Manufacturer_Name: ams OSRAM; Manufacturer_Part_Number: LS R976; Datasheet Link: http://uk.rs-online.com/web/p/products/4974804; Height: 0.4mm; Mouser Part Number: 720-LSR976D5178; Mouser Price/Stock: https://www.mouser.co.uk/ProductDetail/OSRAM-Opto-Semiconductors/LS-R976?qs=OIr7YF%252B2cWVTfzKl425Fkw%3D%3D; Arrow Part Number: LS R976; Arrow Price/Stock: https://www.arrow.com/en/products/lsr976/osram-opto-semiconductors?region=europe
footprint LEDC2012X40N
pins: 1 K, 2 A

## LTC4367IMS8#PBF
designator U?, comment Manufacturer Part Number: LTC4367IMS8#PBF  (hidden comment: SUPPLY PROTECTION CONTROLLER)
Overvoltage, Undervoltage Protection PMIC 8-MSOP; Order Code: DIGI: LTC4367IMS8#PBF-ND
footprint Analog_Devices_MS8-8-05-08-1660_IPC_A
footprint Analog_Devices_MS8-8-05-08-1660_IPC_B
footprint Analog_Devices_MS8-8-05-08-1660_IPC_C
footprint Analog_Devices_MS8-8-05-08-1660_MFG
pins: 1 VIN (power), 2 UV, 3 OV, 4 GND (power), 5 ~{SHDN} (in), 6 ~{FAULT} (out), 7 VOUT, 8 GATE

## LTC4368HMS-2#PBF
designator U?, comment P/N: LTC4368HMS-2#WPBF  (hidden comment: ADJ)
IC SURGE SUPPRESSION ADJ 10MSOP; Order Code: DIGI :  161-LTC4368HMS-2#WPBF-ND; Value: ADJ
footprint MSOP10 (10-TFSOP, 10-MSOP (0.118", 3.00mm Width))
pins: 1 VIN, 2 UV, 3 OV, 4 RETRY, 5 GND, 6 ~{SHDN}, 7 ~{FAULT}, 8 VOUT, 9 SENSE, 10 GATE

## LTC4368HMS-2#PBF_1
designator U?, comment P/N: LTC4368HMS-2#WPBF  (hidden comment: ADJ)
IC SURGE SUPPRESSION ADJ 10MSOP; Order Code: DIGI :  161-LTC4368HMS-2#WPBF-ND; Value: ADJ
footprint MSOP10 (10-TFSOP, 10-MSOP (0.118", 3.00mm Width))
pins: 1 VIN, 2 UV, 3 OV, 4 RETRY, 5 GND, 6 ~{SHDN}, 7 ~{FAULT}, 8 VOUT, 9 SENSE, 10 GATE

## LTC4368HMS-2#PBF_2
designator U?, comment Manufacturer Part Number: LTC4368HMS-2#WPBF  (hidden comment: ADJ)
IC SURGE SUPPRESSION ADJ 10MSOP; Order Code: DIGI :  161-LTC4368HMS-2#WPBF-ND; Value: ADJ
footprint MSOP10
pins: 1 VIN, 2 UV, 3 OV, 4 RETRY, 5 GND, 6 ~{SHDN}, 7 ~{FAULT}, 8 VOUT, 9 SENSE, 10 GATE

## LTST-C19HE1WT
designator LED?, comment LED RGB
RGB LED 1.60 mm x 1.60 mm SMD; Part Number: LTST-C19HE1WT; Manufacturer: LITEON; Part number IPS: 00000007798; Part number NEMS: 101400093; Note: N.A.; Pad Count: 4; Component Status: Active; Manufacturer Part Number: LTST-C19HE1WT; LatestRevisionDate: 2016-09-23; Published: 2016-09-23; Value: LED RGB; Artikkelnr Noca: N.A.; Footprint Doc: LED_RGB_0606; ComponentLink1URL: N.A.; ComponentLink1Description: Datasheet; ComponentLink2URL: N.A.; ComponentLink2Description: Supplier link; HelpURL: http://optoelectronics.liteon.com/upload/download/DS22-2008-0044/S_110_LTST-C19HE1WT.pdf; Supplier 1: Digi-Key; Supplier Part Number 1: 160-2162-1-ND; Supplier 2: Mouser; Supplier Part Number 2: 859-LTST-C19HE1WT; Author: rsk; Component Class: Optoelectronics; PartId: 101400093; Part number Norautron: N.A.
footprint LED_RGB_0606
pins: 1 C_RED, 2 C_GREEN, 3 C_BLUE, 4 A
text: R; G; B

## LTST-C19HE1WT_1
designator LED?, comment LED RGB
RGB LED 1.60 mm x 1.60 mm SMD; Part Number: LTST-C19HE1WT; Manufacturer: LITEON; Part number IPS: 00000007798; Part number NEMS: 101400093; Note: N.A.; Pad Count: 4; Component Status: Active; Manufacturer Part Number: LTST-C19HE1WT; LatestRevisionDate: 2016-09-23; Published: 2016-09-23; Value: LED RGB; Artikkelnr Noca: N.A.; Footprint Doc: LED_RGB_0606; ComponentLink1URL: N.A.; ComponentLink1Description: Datasheet; ComponentLink2URL: N.A.; ComponentLink2Description: Supplier link; HelpURL: http://optoelectronics.liteon.com/upload/download/DS22-2008-0044/S_110_LTST-C19HE1WT.pdf; Supplier 1: Digi-Key; Supplier Part Number 1: 160-2162-1-ND; Supplier 2: Mouser; Supplier Part Number 2: 859-LTST-C19HE1WT; Author: rsk; Component Class: Optoelectronics; PartId: 101400093; Part number Norautron: N.A.
footprint LED_RGB_0606
pins: 1 C_RED, 2 C_GREEN, 3 C_BLUE, 4 A
text: R; G; B

## LTST-C190KGKT
designator D?, comment Manufacturer Part Number: LTST-C193KRKT-5A  (hidden comment: LED GREEN CLEAR CHIP SMD)
Green 571nm LED Indication - Discrete 2V 0603 (1608 Metric); Manufacturer: Lite-On Inc.; Order Code: Digi: 160-1830-2-ND; LCSC Part Number: C125094; LCSC Manufacturer Part Number: LTST-C193KRKT-5A
footprint Lite-On_0_MFG_GREEN
pins: 1 C, 2 A

## LTST-C190KGKT_1
designator D?, comment Manufacturer Part Number: LTST-C193KRKT-5A  (hidden comment: LED GREEN CLEAR CHIP SMD)
Green 571nm LED Indication - Discrete 2V 0603 (1608 Metric); Manufacturer: Lite-On Inc.; Order Code: Digi: 160-1830-2-ND; LCSC Part Number: C125094; LCSC Manufacturer Part Number: LTST-C193KRKT-5A
footprint Lite-On_0_MFG_GREEN
pins: 1 C, 2 A

## LTST-C191KFKT
designator D?, comment Color: Orange Clear  (hidden comment: LED ORANGE CLEAR SMD)
Orange 605nm LED Indication - Discrete 2V 0603 (1608 Metric); Manufacturer Part Number: LTST-C191KFKT; Order Code: DIGI: 160-1445-2-ND
footprint Lite-On_Yellow_0603
pins: 1 C, 2 A

## LTST-C191KGKT
designator D?, comment LED GREEN CLEAR SMD  (value not drawn)
Green 571nm LED Indication - Discrete 2V 0603 (1608 Metric); Manufacturer Part Number: LTST-C191KGKT; Order Code: Digi: 160-1446-2-ND; LCSC Manufacturer Part Number: LTST-C191KGKT; LCSC Part Number: C125098
footprint Lite-On_GREEN_MFG
pins: 1 C, 2 A

## LTST-C191KGKT_1
designator D?, comment LED GREEN CLEAR SMD  (value not drawn)
Green 571nm LED Indication - Discrete 2V 0603 (1608 Metric); Manufacturer Part Number: LTST-C191KGKT; Order Code: Digi: 160-1446-2-ND; LCSC Manufacturer Part Number: LTST-C191KGKT; LCSC Part Number: C125098
footprint Lite-On_GREEN_MFG
pins: 1 C, 2 A

## LTST-C191KGKT_2
designator D?, comment Color: Green Clear  (hidden comment: LED GREEN CLEAR SMD)
Green 571nm LED Indication - Discrete 2V 0603 (1608 Metric); Manufacturer Part Number: LTST-C191KGKT; Order Code: DIGI: 160-1446-2-ND
footprint Lite-On_GREEN_0603
pins: 1 C, 2 A

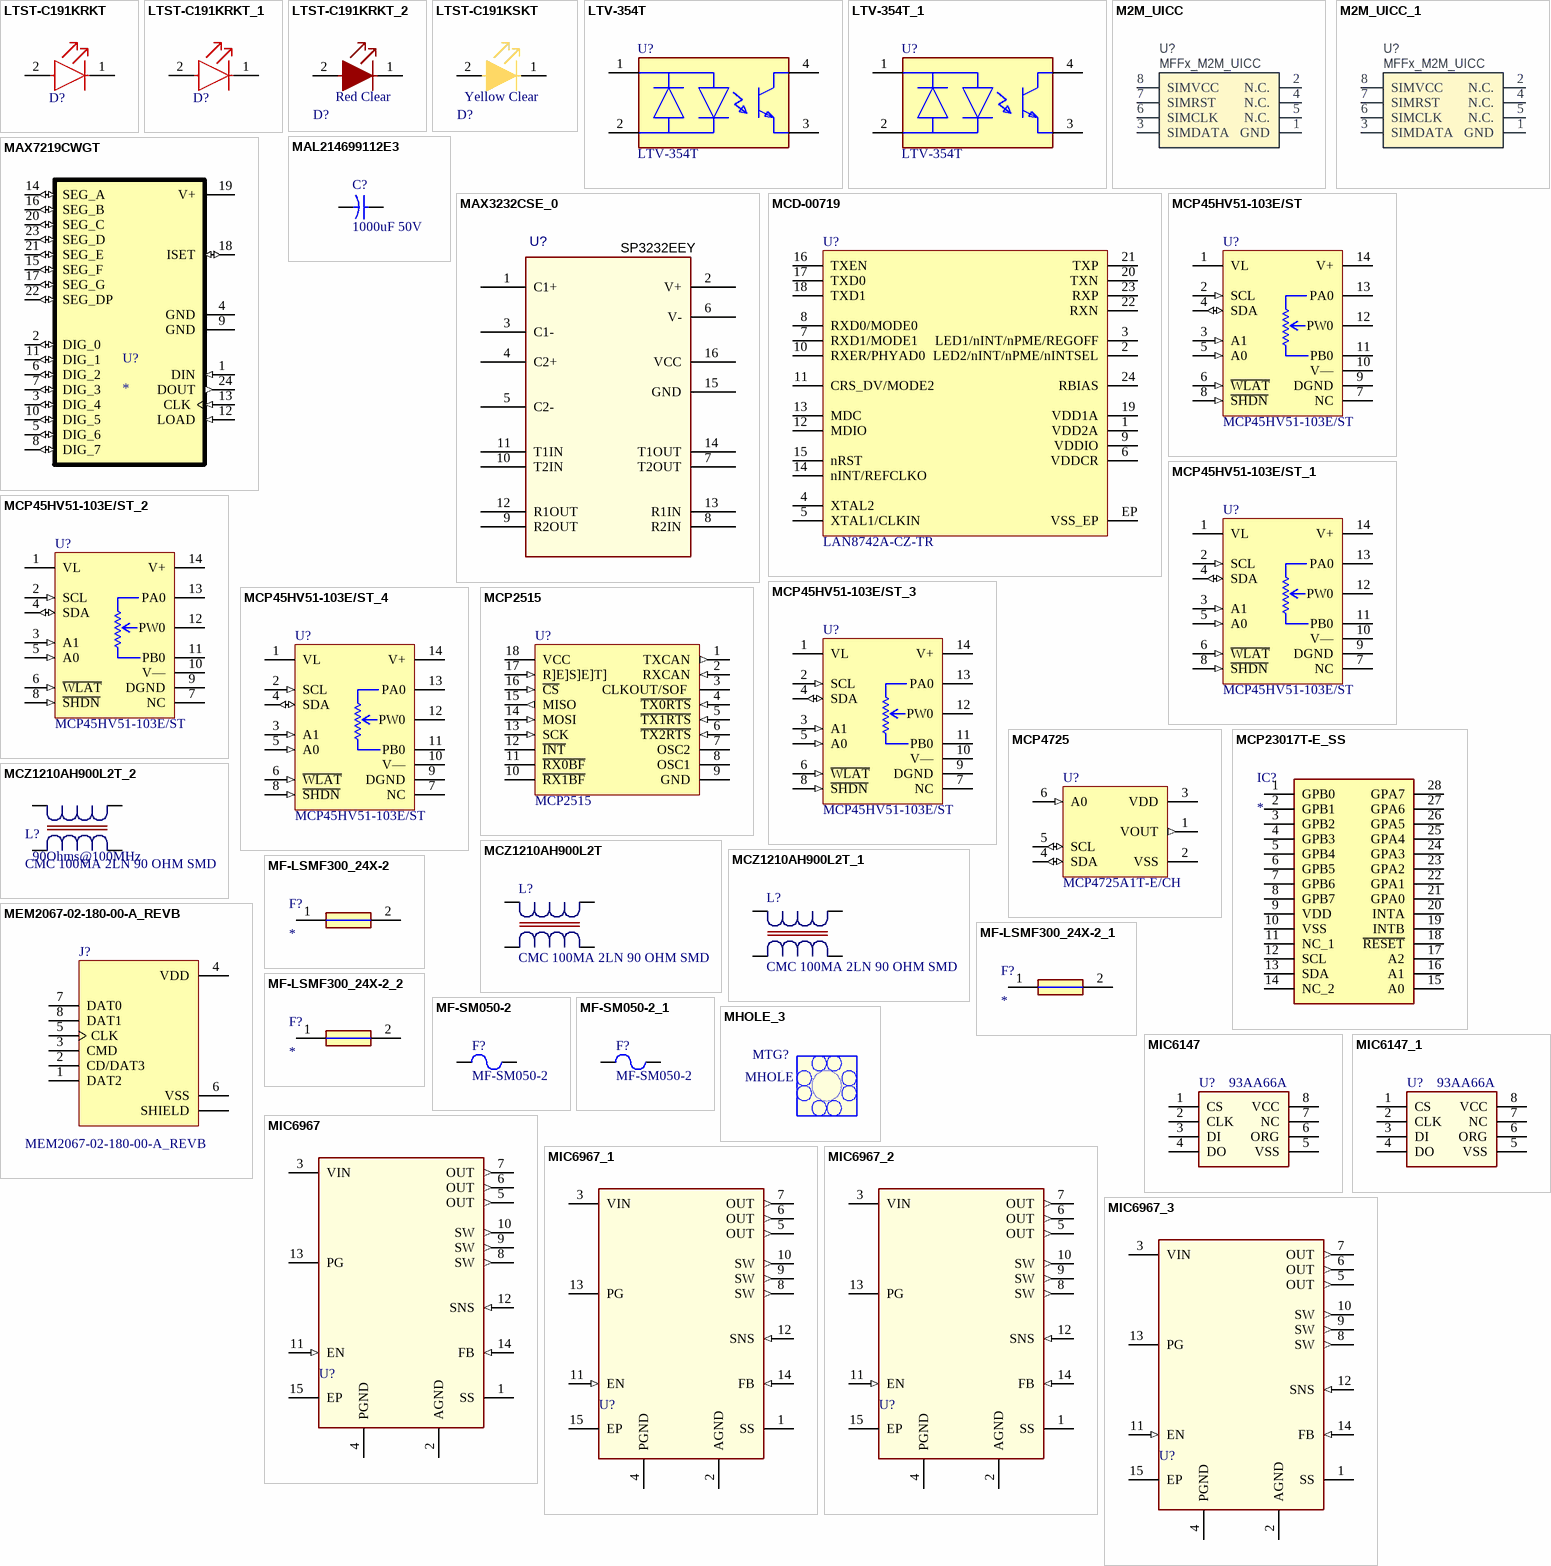
[diagram p34: symbols LTST-C191KRKT to MIC6967_3]

## LTST-C191KRKT
designator D?, comment LED RED CLEAR SMD  (value not drawn)
Red 631nm LED Indication - Discrete 2V 0603 (1608 Metric); Manufacturer Part Number: LTST-C191KRKT; Order Code: Digi: 160-1447-2-ND; LCSC Manufacturer Part Number: LTST-C191KRKT; LCSC Part Number: C125099
footprint Lite-On_0_MFG
pins: 1 C, 2 A

## LTST-C191KRKT_1
designator D?, comment LED RED CLEAR SMD  (value not drawn)
Red 631nm LED Indication - Discrete 2V 0603 (1608 Metric); Manufacturer Part Number: LTST-C191KRKT; Order Code: Digi: 160-1447-2-ND; LCSC Manufacturer Part Number: LTST-C191KRKT; LCSC Part Number: C125099
footprint Lite-On_0_MFG
pins: 1 C, 2 A

## LTST-C191KRKT_2
designator D?, comment Color: Red Clear  (hidden comment: LED RED CLEAR SMD)
Red 631nm LED Indication - Discrete 2V 0603 (1608 Metric); Manufacturer: Lite-On Inc.; Manufacturer Part Number: LTST-C191KRKT; Order Code: DIGI: 160-1447-2-ND
footprint Lite-On_RED_0603
pins: 1 C, 2 A

## LTST-C191KSKT
designator D?, comment Color: Yellow Clear  (hidden comment: LED YELLOW CLEAR SMD)
Yellow 591nm LED Indication - Discrete 2.1V 0603 (1608 Metric); Manufacturer Part Number: LTST-C191KSKT; Order Code: DIGI: 160-1448-2-ND
footprint Lite-On_Yellow_0603
pins: 1 C, 2 A

## LTV-354T
designator U?, comment Manufacturer Part Number: LTV-354T  (hidden comment: OPTOISOLATOR 3.75KV TRANS 4-SOP)
Optoisolator Transistor Output 3750Vrms 1 Channel 4-SOP; Order Code: Digi: 160-1333-2-ND; LCSC Manufacturer Part Number: LTV-354T; LCSC Part Number: C119090
footprint Lite-On_LTV-354T_0
pins: 1 Anode/Cathode, 2 Cathode/Anode, 3 E, 4 C

## LTV-354T_1
designator U?, comment Manufacturer Part Number: LTV-354T  (hidden comment: OPTOISOLATOR 3.75KV TRANS 4-SOP)
Optoisolator Transistor Output 3750Vrms 1 Channel 4-SOP; Order Code: Digi: 160-1333-2-ND; LCSC Manufacturer Part Number: LTV-354T; LCSC Part Number: C119090
footprint Lite-On_LTV-354T_0
pins: 1 Anode/Cathode, 2 Cathode/Anode, 3 E, 4 C

## M2M_UICC
designator U?, comment MFFx_M2M_UICC
M2M UICC SIM Card; Manufacturer: N.A.; Part number NEMS: 101900595; Pad Count: 8; Component Status: Active; Part Number: M2M_UICC; Manufacturer Part Number: N.A.; ComponentLink1URL: N.A.; ComponentLink1Description: Datasheet; ComponentLink2URL: N.A.; ComponentLink2Description: Supplier link; HelpURL: N.A.; Footprint Doc: SON-8; LatestRevisionDate: 2019-10-22; Published: 2019-10-22; Value: M2M UICC; Note: N.A.; Supplier 1: N.A.; Supplier Part Number 1: N.A.; Supplier 2: N.A.; Supplier Part Number 2: N.A.; Artikkelnr Noca: N.A.; Part number IPS: N.A.; Author: rsk; Component Class: Misc_ICs; PartId: 101900595; Part number Norautron: N.A.
footprint SON127P600X90_HS-8N
pins: 1 GND, 2 N.C., 3 SIMDATA, 4 N.C., 5 N.C., 6 SIMCLK, 7 SIMRST, 8 SIMVCC

## M2M_UICC_1
designator U?, comment MFFx_M2M_UICC
M2M UICC SIM Card; Manufacturer: N.A.; Part number NEMS: 101900595; Pad Count: 8; Component Status: Active; Part Number: M2M_UICC; Manufacturer Part Number: N.A.; ComponentLink1URL: N.A.; ComponentLink1Description: Datasheet; ComponentLink2URL: N.A.; ComponentLink2Description: Supplier link; HelpURL: N.A.; Footprint Doc: SON-8; LatestRevisionDate: 2019-10-22; Published: 2019-10-22; Value: M2M UICC; Note: N.A.; Supplier 1: N.A.; Supplier Part Number 1: N.A.; Supplier 2: N.A.; Supplier Part Number 2: N.A.; Artikkelnr Noca: N.A.; Part number IPS: N.A.; Author: rsk; Component Class: Misc_ICs; PartId: 101900595; Part number Norautron: N.A.
footprint SON127P600X90_HS-8N
pins: 1 GND, 2 N.C., 3 SIMDATA, 4 N.C., 5 N.C., 6 SIMCLK, 7 SIMRST, 8 SIMVCC

## MAL214699112E3
designator C?, comment 1000uF 50V
Vishay Extreme 1000uF 50 V Aluminium Electrolytic Capacitor 1816, 146 CTI Series 4000 h, 5000 h, 350000 h; Manufacturer_Part_Number: MAL214699112E3; Geometry.Height: 17.5mm; Manufacturer_Name: Vishay; Mouser Part Number: 594-MAL214699112E3; Mouser Price/Stock: https://www.mouser.co.uk/ProductDetail/Vishay-BC-Components/MAL214699112E3?qs=Ep9Lwju7gVqvA%252BJOlnnegw%3D%3D; Arrow Part Number: MAL214699112E3; Arrow Price/Stock: https://www.arrow.com/en/products/mal214699112e3/vishay; Datasheet Link: http://www.vishay.com/docs/28403/146cti.pdf
footprint MAL214699112E3
pins: 1, 2

## MAX3232CSE_0
designator U?, comment SP3232EEY
Manufacturer Part Number: ST3232BDR; BOM: I
footprint TSSOP16
pins: 1 C1+, 2 V+, 3 C1-, 4 C2+, 5 C2-, 6 V-, 7 T2OUT, 8 R2IN, 9 R2OUT, 10 T2IN, 11 T1IN, 12 R1OUT, 13 R1IN, 14 T1OUT, 15 GND, 16 VCC

## MAX7219CWGT
designator U?
IC DRVR 7 SEGMNT 8 DIGIT 24SOIC; MF: Maxim Integrated; MP: MAX7219CWG-T; Package: SOIC-24 Maxim Integrated; Value: *; Price: None; Availability: Unavailable; SnapEDA_Link: https://www.snapeda.com/parts/MAX7219CWG-T/Maxim%20Integrated/view-part/1041821/?ref=snap
footprint SOIC127P1032X265-24N
pins: 1 DIN (in), 2 DIG_0 (io), 3 DIG_4 (io), 4 GND (power), 5 DIG_6 (io), 6 DIG_2 (io), 7 DIG_3 (io), 8 DIG_7 (io), 9 GND (power), 10 DIG_5 (io), 11 DIG_1 (io), 12 LOAD (in), 13 CLK (in), 14 SEG_A (io), 15 SEG_F (io), 16 SEG_B (io), 17 SEG_G (io), 18 ISET (io), 19 V+ (power), 20 SEG_C (io), 21 SEG_E (io), 22 SEG_DP (io), 23 SEG_D (io), 24 DOUT (out)

## MCD-00719
designator U?  value LAN8742A-CZ-TR  (hidden comment: MCD-00719)
10/100M RMII Ethernet transceiver; Manufacturer: MICROCHIP; Part_Type: IC; Provided_By: SUBCO; Internal_Part_Number: MCD-00719; Status: Released; Manufacturer_Part_Number: LAN8742A-CZ-TR; ComponentLink1Description: Datasheet; ComponentLink1URL: http://tunmcdsvn.tun.st.com/Component_Datasheet_Library/Trunk/IC/MICROCHIP_LAN8742A_RMII_PHY; ECCN_US: n/a; ECCN_EU: n/a
footprint ICC_VQFN24-EPAD_4X4_P050
pins: 1 VDD2A, 2 LED2/nINT/nPME/nINTSEL, 3 LED1/nINT/nPME/REGOFF, 4 XTAL2, 5 XTAL1/CLKIN, 6 VDDCR, 7 RXD1/MODE1, 8 RXD0/MODE0, 9 VDDIO, 10 RXER/PHYAD0, 11 CRS_DV/MODE2, 12 MDIO, 13 MDC, 14 nINT/REFCLKO, 15 nRST, 16 TXEN, 17 TXD0, 18 TXD1, 19 VDD1A, 20 TXN, 21 TXP, 22 RXN, 23 RXP, 24 RBIAS, EP VSS_EP

## MCP45HV51-103E/ST
designator U?
IC DGT POT 10KOHM 256TAP 14TSSOP; Manufacturer: Microchip Technology; Manufacturer Part Number: MCP45HV51-103E/ST; Supplier Part Number: MCP45HV51-103E/ST-ND; Value: MCP45HV51-103E/ST
footprint TSSOP-14
pins: 1 VL (power), 2 SCL (in), 3 A1 (in), 4 SDA (io), 5 A0 (in), 6 ~{WLAT} (in), 7 NC, 8 ~{SHDN} (in), 9 DGND (power), 10 V— (power), 11 PB0, 12 PW0, 13 PA0, 14 V+ (power)

## MCP45HV51-103E/ST_1
designator U?, comment MCP45HV51-103E/ST
IC DGT POT 10KOHM 256TAP 14TSSOP; Manufacturer: Microchip Technology; Manufacturer Part Number: MCP45HV51-103E/ST; Supplier Part Number: MCP45HV51-103E/ST-ND; Value: MCP45HV51-103E/ST
footprint TSSOP-14
pins: 1 VL (power), 2 SCL (in), 3 A1 (in), 4 SDA (io), 5 A0 (in), 6 ~{WLAT} (in), 7 NC, 8 ~{SHDN} (in), 9 DGND (power), 10 V— (power), 11 PB0, 12 PW0, 13 PA0, 14 V+ (power)

## MCP45HV51-103E/ST_2
designator U?, comment MCP45HV51-103E/ST
IC DGT POT 10KOHM 256TAP 14TSSOP; Manufacturer: Microchip Technology; Manufacturer Part Number: MCP45HV51-103E/ST; Supplier Part Number: MCP45HV51-103E/ST-ND; Value: MCP45HV51-103E/ST
footprint TSSOP-14
pins: 1 VL (power), 2 SCL (in), 3 A1 (in), 4 SDA (io), 5 A0 (in), 6 ~{WLAT} (in), 7 NC, 8 ~{SHDN} (in), 9 DGND (power), 10 V— (power), 11 PB0, 12 PW0, 13 PA0, 14 V+ (power)

## MCP45HV51-103E/ST_3
designator U?, comment MCP45HV51-103E/ST
IC DGT POT 10KOHM 256TAP 14TSSOP; Manufacturer: Microchip Technology; Manufacturer Part Number: MCP45HV51-103E/ST; Supplier Part Number: MCP45HV51-103E/ST-ND; Value: MCP45HV51-103E/ST
footprint TSSOP-14
pins: 1 VL (power), 2 SCL (in), 3 A1 (in), 4 SDA (io), 5 A0 (in), 6 ~{WLAT} (in), 7 NC, 8 ~{SHDN} (in), 9 DGND (power), 10 V— (power), 11 PB0, 12 PW0, 13 PA0, 14 V+ (power)

## MCP45HV51-103E/ST_4
designator U?, comment MCP45HV51-103E/ST
IC DGT POT 10KOHM 256TAP 14TSSOP; Manufacturer: Microchip Technology; Manufacturer Part Number: MCP45HV51-103E/ST; Supplier Part Number: MCP45HV51-103E/ST-ND; Value: MCP45HV51-103E/ST
footprint TSSOP-14
pins: 1 VL (power), 2 SCL (in), 3 A1 (in), 4 SDA (io), 5 A0 (in), 6 ~{WLAT} (in), 7 NC, 8 ~{SHDN} (in), 9 DGND (power), 10 V— (power), 11 PB0, 12 PW0, 13 PA0, 14 V+ (power)

## MCP2515
designator U?
IC CAN CONTROLLER W/SPI 18SOIC; Manufacturer Part Number: MCP2515T-I/SO; Manufacturer: IC CAN CONTROLLER W/SPI 18SOIC; Supplier Part Number: MCP2515T-I/SOCT-ND
footprint soic-18 7.5MM
pins: 1 TXCAN (out), 2 RXCAN (in), 3 CLKOUT/SOF , 4 ~{TX0RTS} (in), 5 ~{TX1RTS} (in), 6 ~{TX2RTS} (in), 7 OSC2, 8 OSC1, 9 GND (power), 10 ~{RX1BF}, 11 ~{RX0BF}, 12 ~{INT}, 13 SCK (in), 14 MOSI (in), 15 MISO (out), 16 ~{CS} (in), 17 R]E]S]E]T] (in), 18 VCC (power)

## MCP4725
designator U?, comment MCP4725A1T-E/CH
IC DAC 12BIT V-OUT SOT23-6; Manufacturer: Microchip Technology; Manufacturer Part Number: MCP4725A1T-E/CH; Supplier Part Number: MCP4725A1T-E/CHCT-ND
footprint sot23-6 (PN: MIC2019YM6[Microchip]; CHECKED BY DN_QN - 19FEB19)
pins: 1 VOUT (out), 2 VSS (power), 3 VDD (power), 4 SDA (io), 5 SCL (io), 6 A0 (in)

## MCP23017T-E_SS
designator IC?
Integrated Circuit; Manufacturer_Name: Microchip; Manufacturer_Part_Number: MCP23017T-E/SS; Datasheet Link: https://datasheet.datasheetarchive.com/originals/distributors/SFDatasheet-4/sf-00090057.pdf; Height: 2mm; Mouser Part Number: 579-MCP23017T-E/SS; Mouser Price/Stock: https://www.mouser.co.uk/ProductDetail/Microchip-Technology/MCP23017T-E-SS?qs=usxtMOJb1Rz2FhASIaFluQ%3D%3D; Arrow Part Number: MCP23017T-E/SS; Arrow Price/Stock: https://www.arrow.com/en/products/mcp23017t-ess/microchip-technology?region=nac
footprint SOP65P780X200-28N
pins: 1 GPB0, 2 GPB1, 3 GPB2, 4 GPB3, 5 GPB4, 6 GPB5, 7 GPB6, 8 GPB7, 9 VDD, 10 VSS, 11 NC_1, 12 SCL, 13 SDA, 14 NC_2, 15 A0, 16 A1, 17 A2, 18 ~{RESET}, 19 INTB, 20 INTA, 21 GPA0, 22 GPA1, 23 GPA2, 24 GPA3, 25 GPA4, 26 GPA5, 27 GPA6, 28 GPA7

## MCZ1210AH900L2T
designator L?, comment CMC 100MA 2LN 90 OHM SMD
2 Line Common Mode Choke Surface Mount 90 Ohms @ 100 MHz 100mA DCR 1.75Ohm; Manufacturer Part Number: MCZ1210AH900L2TA0G; LCSC Manufacturer Part Number: MCZ1210AH900L2TD0G; Order Code: Digi: 445-MCZ1210AH900L2TA0GTR-ND; LCSC Part Number: C435268
footprint IND_MCZ1210AH_TDK
pins: 1, 2, 3 4, 4

## MCZ1210AH900L2T_1
designator L?, comment CMC 100MA 2LN 90 OHM SMD
2 Line Common Mode Choke Surface Mount 90 Ohms @ 100 MHz 100mA DCR 1.75Ohm; Manufacturer Part Number: MCZ1210AH900L2TA0G; LCSC Manufacturer Part Number: MCZ1210AH900L2TD0G; Order Code: Digi: 445-MCZ1210AH900L2TA0GTR-ND; LCSC Part Number: C435268
footprint IND_MCZ1210AH_TDK
pins: 1, 2, 3 4, 4

## MCZ1210AH900L2T_2
designator L?, comment CMC 100MA 2LN 90 OHM SMD  value 90Ohms@100MHz
2 Line Common Mode Choke Surface Mount 90 Ohms @ 100 MHz 100mA DCR 1.75Ohm; Manufacturer Part Number: MCZ1210AH900L2TA0G; Order Code: DIGI:: 445-MCZ1210AH900L2TA0GTR-ND
footprint IND_MCZ1210AH_TDK
pins: 1, 2, 3 4, 4

## MEM2067-02-180-00-A_REVB
designator J?
Micro SD Memory Card ConnectorSMT, Hinged, 1.80mm Profile; Price: None; Value: *; Manufacturer Part Number: MEM2067-02-180-00-A_REVB; Package: None; Availability: Unavailable
footprint GCT_MEM2067-02-180-00-A_REVB
pins: 1 DAT2, 2 CD/DAT3, 3 CMD, 4 VDD, 5 CLK, 6 VSS, 7 DAT0, 8 DAT1, 9 SHIELD, 10 SHIELD, 11 SHIELD, 12 SHIELD

## MF-LSMF300_24X-2
designator F?
Fuse; Manufacturer_Name: Bourns; Manufacturer_Part_Number: MF-LSMF300/24X-2; Datasheet Link: https://www.bourns.com/docs/Product-Datasheets/mflsmf.pdf; Height: 1.6mm; Mouser Part Number: 652-MF-LSMF300/24X-2; Mouser Price/Stock: https://www.mouser.co.uk/ProductDetail/Bourns/MF-LSMF300-24X-2?qs=LaERWbmZ8SQFElU5s8JsYg%3D%3D; Arrow Part Number: MF-LSMF300/24X-2; Arrow Price/Stock: https://www.arrow.com/en/products/mf-lsmf30024x-2/bourns?region=nac
footprint FUSC7451X160N
pins: 1, 2

## MF-LSMF300_24X-2_1
designator F?
Fuse; Manufacturer_Name: Bourns; Manufacturer_Part_Number: MF-LSMF300/24X-2; Datasheet Link: https://www.bourns.com/docs/Product-Datasheets/mflsmf.pdf; Height: 1.6mm; Mouser Part Number: 652-MF-LSMF300/24X-2; Mouser Price/Stock: https://www.mouser.co.uk/ProductDetail/Bourns/MF-LSMF300-24X-2?qs=LaERWbmZ8SQFElU5s8JsYg%3D%3D; Arrow Part Number: MF-LSMF300/24X-2; Arrow Price/Stock: https://www.arrow.com/en/products/mf-lsmf30024x-2/bourns?region=nac
footprint FUSC7451X160N
pins: 1, 2

## MF-LSMF300_24X-2_2
designator F?
Fuse; Manufacturer_Name: Bourns; Manufacturer_Part_Number: MF-LSMF300/24X-2; Datasheet Link: https://www.bourns.com/docs/Product-Datasheets/mflsmf.pdf; Height: 1.6mm; Mouser Part Number: 652-MF-LSMF300/24X-2; Mouser Price/Stock: https://www.mouser.co.uk/ProductDetail/Bourns/MF-LSMF300-24X-2?qs=LaERWbmZ8SQFElU5s8JsYg%3D%3D; Arrow Part Number: MF-LSMF300/24X-2; Arrow Price/Stock: https://www.arrow.com/en/products/mf-lsmf30024x-2/bourns?region=nac
footprint FUSC7451X160N
pins: 1, 2

## MF-SM050-2
designator F?
PTC Resettable Fuse, 60 V, 40 A, -40 to 85 degC, 2-Pin SMD, RoHS, Tape and Reel; Manufacturer Part Number: MF-SM050-2; LCSC Manufacturer Part Number: MF-SM050-2; LCSC Part Number: C208496
footprint BOUR-MF-SM050-2_V (SMD, 2-Leads, Body 7.355x5.44mm)
pins: 1, 2

## MF-SM050-2_1
designator F?, comment MF-SM050-2
PTC Resettable Fuse, 60 V, 40 A, -40 to 85 degC, 2-Pin SMD, RoHS, Tape and Reel; Manufacturer Part Number: MF-SM050-2; LCSC Manufacturer Part Number: MF-SM050-2; LCSC Part Number: C208496
footprint BOUR-MF-SM050-2_V (SMD, 2-Leads, Body 7.355x5.44mm)
pins: 1, 2

## MHOLE_3
designator MTG?, comment MHOLE
PCB Footprint: hole3_2p-8
footprint mh230-156
footprint hole3_2p-8
pins: 1 GND1, 2 GND2, 3 GND3, 4 GND4, 5 GND5, 6 GND6, 7 GND7, 8 GND8, 9 GND9